# Altium footprint library Modules.PcbLib: 5 footprints
Each footprint in its own frame and in the unit in brackets; x right, y up, seen from the top. Pads: shape width x height; smd on the part's side, far side on the other; paste and mask are expansions set on the pad; w line width, h text height; cw(c..) or ccw(c..) is an arc to the next point about the centre after c.
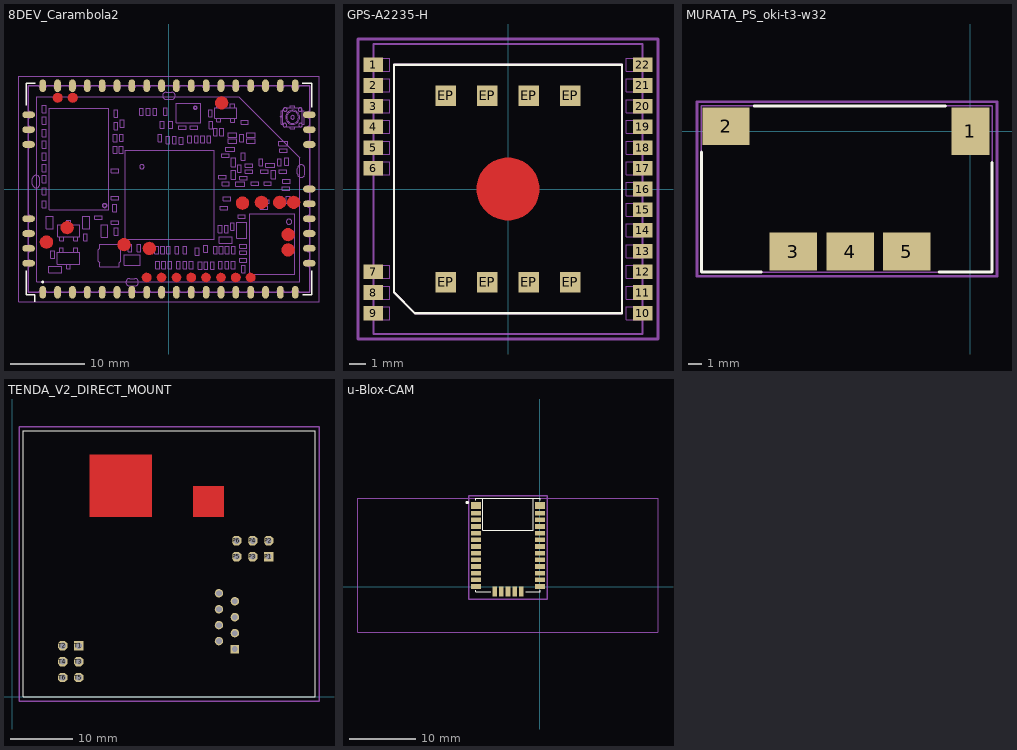
[diagram p0: the footprints below, top view; thin cyan lines are the x and y axes]

## 8DEV_Carambola2 [mm] "8DEV_0301_0002_28X38_FP"
height 1.2
pads (52):
  oval 0.898x1.698 smd mask+0.1: 1(-16.998,-13.898) 2(-14.998,-13.898) 3(-12.998,-13.898) 4(-10.999,-13.898) 5(-8.998,-13.898) 6(-6.998,-13.898) 7(-4.998,-13.898) 8(-2.998,-13.898) 9(-0.998,-13.898) 10(0.998,-13.898) 11(2.998,-13.898) 12(4.998,-13.898) 13(6.998,-13.898) 14(8.998,-13.898) 15(10.998,-13.898) 16(12.998,-13.898) 17(14.998,-13.898) 18(16.998,-13.898) 28(16.998,13.898) 29(14.998,13.898) 30(12.998,13.898) 31(10.998,13.898) 32(8.998,13.898) 33(6.998,13.898) 34(4.998,13.898) 35(2.998,13.898) 36(0.998,13.898) 37(-0.998,13.898) 38(-2.998,13.898) 39(-4.998,13.898) 40(-6.998,13.898) 41(-8.998,13.898) 42(-10.999,13.898) 43(-12.998,13.898) 44(-14.998,13.898) 45(-16.998,13.898)
  oval 1.698x0.898 smd mask+0.1: 19(18.898,-9.998) 20(18.898,-7.998) 21(18.898,-5.998) 22(18.898,-3.998) 23(18.898,-1.998) 24(18.898,0) 25(18.898,5.998) 26(18.898,7.998) 27(18.898,9.998) 46(-18.898,9.998) 47(-18.898,7.998) 48(-18.898,5.998) 49(-18.898,-3.998) 50(-18.898,-5.998) 51(-18.898,-7.998) 52(-18.898,-9.998)
Top Layer:
  pour cut-out: 16.273,-5.308 16.274,-5.309 16.276,-5.309 16.483,-5.395 16.484,-5.396 16.486,-5.397 16.663,-5.533 16.664,-5.535 16.666,-5.536 16.802,-5.713 16.803,-5.715 16.804,-5.716 16.89,-5.923 16.89,-5.925 16.891,-5.926 16.92,-6.148 16.919,-6.15 16.92,-6.152 16.891,-6.374 16.89,-6.375 16.89,-6.377 16.804,-6.584 16.803,-6.585 16.802,-6.587 16.666,-6.764 16.664,-6.765 16.663,-6.767 16.486,-6.903 16.484,-6.904 16.483,-6.905 16.276,-6.991 16.274,-6.991 16.273,-6.992 16.051,-7.021 16.049,-7.02 16.047,-7.021 15.825,-6.992 15.824,-6.991 15.822,-6.991 15.615,-6.905 15.614,-6.904 15.612,-6.903 15.435,-6.767 15.434,-6.765 15.432,-6.764 15.296,-6.587 15.295,-6.585 15.294,-6.584 15.208,-6.377 15.208,-6.375 15.207,-6.374 15.178,-6.152 15.178,-6.151 15.178,-6.15 15.18,-6.146 15.181,-6.142 15.182,-6.141 15.182,-6.14 15.182,-6.139 15.18,-6.135 15.18,-6.134 15.18,-6.133 15.207,-5.926 15.208,-5.925 15.208,-5.923 15.294,-5.716 15.295,-5.715 15.296,-5.713 15.432,-5.536 15.434,-5.535 15.435,-5.533 15.612,-5.397 15.614,-5.396 15.615,-5.395 15.822,-5.309 15.824,-5.309 15.825,-5.308 16.047,-5.279 16.049,-5.28 16.051,-5.279
  pour cut-out: 17.023,-0.957 17.024,-0.958 17.026,-0.958 17.233,-1.044 17.234,-1.045 17.236,-1.046 17.413,-1.182 17.414,-1.184 17.416,-1.185 17.552,-1.362 17.553,-1.364 17.554,-1.365 17.64,-1.572 17.64,-1.574 17.641,-1.575 17.67,-1.797 17.669,-1.799 17.67,-1.801 17.641,-2.023 17.64,-2.024 17.64,-2.026 17.554,-2.233 17.553,-2.234 17.552,-2.236 17.416,-2.413 17.414,-2.414 17.413,-2.416 17.236,-2.552 17.234,-2.553 17.233,-2.554 17.026,-2.64 17.024,-2.64 17.023,-2.641 16.801,-2.67 16.799,-2.669 16.797,-2.67 16.575,-2.641 16.574,-2.64 16.572,-2.64 16.365,-2.554 16.364,-2.553 16.362,-2.552 16.185,-2.416 16.184,-2.414 16.182,-2.413 16.046,-2.236 16.045,-2.234 16.044,-2.233 15.958,-2.026 15.958,-2.024 15.957,-2.023 15.928,-1.801 15.928,-1.8 15.928,-1.799 15.93,-1.795 15.931,-1.791 15.932,-1.79 15.932,-1.789 15.932,-1.788 15.93,-1.784 15.93,-1.783 15.93,-1.782 15.957,-1.575 15.958,-1.574 15.958,-1.572 16.044,-1.365 16.045,-1.364 16.046,-1.362 16.182,-1.185 16.184,-1.184 16.185,-1.182 16.362,-1.046 16.364,-1.045 16.365,-1.044 16.572,-0.958 16.574,-0.958 16.575,-0.957 16.797,-0.928 16.799,-0.929 16.801,-0.928
  pour cut-out: 15.123,-0.957 15.124,-0.958 15.126,-0.958 15.333,-1.044 15.334,-1.045 15.336,-1.046 15.513,-1.182 15.514,-1.184 15.516,-1.185 15.652,-1.362 15.653,-1.364 15.654,-1.365 15.74,-1.572 15.74,-1.574 15.741,-1.575 15.77,-1.797 15.769,-1.799 15.77,-1.801 15.741,-2.023 15.74,-2.024 15.74,-2.026 15.654,-2.233 15.653,-2.234 15.652,-2.236 15.516,-2.413 15.514,-2.414 15.513,-2.416 15.336,-2.552 15.334,-2.553 15.333,-2.554 15.126,-2.64 15.124,-2.64 15.123,-2.641 14.901,-2.67 14.899,-2.669 14.897,-2.67 14.675,-2.641 14.674,-2.64 14.672,-2.64 14.465,-2.554 14.464,-2.553 14.462,-2.552 14.285,-2.416 14.284,-2.414 14.282,-2.413 14.146,-2.236 14.145,-2.234 14.144,-2.233 14.058,-2.026 14.058,-2.024 14.057,-2.023 14.028,-1.801 14.028,-1.8 14.028,-1.799 14.03,-1.795 14.031,-1.791 14.032,-1.79 14.032,-1.789 14.032,-1.788 14.03,-1.784 14.03,-1.783 14.03,-1.782 14.057,-1.575 14.058,-1.574 14.058,-1.572 14.144,-1.365 14.145,-1.364 14.146,-1.362 14.282,-1.185 14.284,-1.184 14.285,-1.182 14.462,-1.046 14.464,-1.045 14.465,-1.044 14.672,-0.958 14.674,-0.958 14.675,-0.957 14.897,-0.928 14.899,-0.929 14.901,-0.928
  pour cut-out: 12.673,-0.957 12.674,-0.958 12.676,-0.958 12.883,-1.044 12.884,-1.045 12.886,-1.046 13.063,-1.182 13.064,-1.184 13.066,-1.185 13.202,-1.362 13.203,-1.364 13.204,-1.365 13.29,-1.572 13.29,-1.574 13.291,-1.575 13.32,-1.797 13.319,-1.799 13.32,-1.801 13.291,-2.023 13.29,-2.024 13.29,-2.026 13.204,-2.233 13.203,-2.234 13.202,-2.236 13.066,-2.413 13.064,-2.414 13.063,-2.416 12.886,-2.552 12.884,-2.553 12.883,-2.554 12.676,-2.64 12.674,-2.64 12.673,-2.641 12.451,-2.67 12.449,-2.669 12.447,-2.67 12.225,-2.641 12.224,-2.64 12.222,-2.64 12.015,-2.554 12.014,-2.553 12.012,-2.552 11.835,-2.416 11.834,-2.414 11.832,-2.413 11.696,-2.236 11.695,-2.234 11.694,-2.233 11.608,-2.026 11.608,-2.024 11.607,-2.023 11.578,-1.801 11.578,-1.8 11.578,-1.799 11.58,-1.795 11.581,-1.791 11.582,-1.79 11.582,-1.789 11.582,-1.788 11.58,-1.784 11.58,-1.783 11.58,-1.782 11.607,-1.575 11.608,-1.574 11.608,-1.572 11.694,-1.365 11.695,-1.364 11.696,-1.362 11.832,-1.185 11.834,-1.184 11.835,-1.182 12.012,-1.046 12.014,-1.045 12.015,-1.044 12.222,-0.958 12.224,-0.958 12.225,-0.957 12.447,-0.928 12.449,-0.929 12.451,-0.928
  pour cut-out: 10.123,-1.057 10.124,-1.058 10.126,-1.058 10.333,-1.144 10.334,-1.145 10.336,-1.146 10.513,-1.282 10.514,-1.284 10.516,-1.285 10.652,-1.462 10.653,-1.464 10.654,-1.465 10.74,-1.672 10.74,-1.674 10.741,-1.675 10.77,-1.897 10.769,-1.899 10.77,-1.901 10.741,-2.123 10.74,-2.124 10.74,-2.126 10.654,-2.333 10.653,-2.334 10.652,-2.336 10.516,-2.513 10.514,-2.514 10.513,-2.516 10.336,-2.652 10.334,-2.653 10.333,-2.654 10.126,-2.74 10.124,-2.74 10.123,-2.741 9.901,-2.77 9.899,-2.769 9.897,-2.77 9.675,-2.741 9.674,-2.74 9.672,-2.74 9.465,-2.654 9.464,-2.653 9.462,-2.652 9.285,-2.516 9.284,-2.514 9.282,-2.513 9.146,-2.336 9.145,-2.334 9.144,-2.333 9.058,-2.126 9.058,-2.124 9.057,-2.123 9.028,-1.901 9.028,-1.9 9.028,-1.899 9.03,-1.895 9.031,-1.891 9.032,-1.89 9.032,-1.889 9.032,-1.888 9.03,-1.884 9.03,-1.883 9.03,-1.882 9.057,-1.675 9.058,-1.674 9.058,-1.672 9.144,-1.465 9.145,-1.464 9.146,-1.462 9.282,-1.285 9.284,-1.284 9.285,-1.282 9.462,-1.146 9.464,-1.145 9.465,-1.144 9.672,-1.058 9.674,-1.058 9.675,-1.057 9.897,-1.028 9.899,-1.029 9.901,-1.028
  pour cut-out: 11.239,-11.313 11.241,-11.314 11.244,-11.315 11.445,-11.449 11.447,-11.451 11.449,-11.453 11.583,-11.654 11.584,-11.657 11.585,-11.659 11.632,-11.896 11.632,-11.899 11.632,-11.902 11.585,-12.139 11.584,-12.141 11.583,-12.144 11.449,-12.345 11.447,-12.347 11.445,-12.349 11.244,-12.483 11.241,-12.484 11.239,-12.485 11.002,-12.532 10.999,-12.532 10.996,-12.532 10.759,-12.485 10.757,-12.484 10.754,-12.483 10.553,-12.349 10.551,-12.347 10.549,-12.345 10.415,-12.144 10.414,-12.141 10.413,-12.139 10.366,-11.902 10.366,-11.899 10.366,-11.896 10.413,-11.659 10.414,-11.657 10.415,-11.654 10.549,-11.453 10.551,-11.451 10.553,-11.449 10.754,-11.315 10.757,-11.314 10.759,-11.313 10.896,-11.285 10.897,-11.285 10.897,-11.286 10.905,-11.284 10.907,-11.283 10.996,-11.266 10.999,-11.266 11.002,-11.266
  pour cut-out: 9.239,-11.313 9.241,-11.314 9.244,-11.315 9.445,-11.449 9.447,-11.451 9.449,-11.453 9.583,-11.654 9.584,-11.657 9.585,-11.659 9.632,-11.896 9.632,-11.899 9.632,-11.902 9.585,-12.139 9.584,-12.141 9.583,-12.144 9.449,-12.345 9.447,-12.347 9.445,-12.349 9.244,-12.483 9.241,-12.484 9.239,-12.485 9.002,-12.532 8.999,-12.532 8.996,-12.532 8.759,-12.485 8.757,-12.484 8.754,-12.483 8.553,-12.349 8.551,-12.347 8.549,-12.345 8.415,-12.144 8.414,-12.141 8.413,-12.139 8.366,-11.902 8.366,-11.899 8.366,-11.896 8.413,-11.659 8.414,-11.657 8.415,-11.654 8.549,-11.453 8.551,-11.451 8.553,-11.449 8.754,-11.315 8.757,-11.314 8.759,-11.313 8.896,-11.285 8.897,-11.285 8.897,-11.286 8.905,-11.284 8.907,-11.283 8.996,-11.266 8.999,-11.266 9.002,-11.266
  pour cut-out: 7.239,-11.313 7.241,-11.314 7.244,-11.315 7.445,-11.449 7.447,-11.451 7.449,-11.453 7.583,-11.654 7.584,-11.657 7.585,-11.659 7.632,-11.896 7.632,-11.899 7.632,-11.902 7.585,-12.139 7.584,-12.141 7.583,-12.144 7.449,-12.345 7.447,-12.347 7.445,-12.349 7.244,-12.483 7.241,-12.484 7.239,-12.485 7.002,-12.532 6.999,-12.532 6.996,-12.532 6.759,-12.485 6.757,-12.484 6.754,-12.483 6.553,-12.349 6.551,-12.347 6.549,-12.345 6.415,-12.144 6.414,-12.141 6.413,-12.139 6.366,-11.902 6.366,-11.899 6.366,-11.896 6.413,-11.659 6.414,-11.657 6.415,-11.654 6.549,-11.453 6.551,-11.451 6.553,-11.449 6.754,-11.315 6.757,-11.314 6.759,-11.313 6.896,-11.285 6.897,-11.285 6.897,-11.286 6.905,-11.284 6.907,-11.283 6.996,-11.266 6.999,-11.266 7.002,-11.266
  pour cut-out: 5.239,-11.313 5.241,-11.314 5.244,-11.315 5.445,-11.449 5.447,-11.451 5.449,-11.453 5.583,-11.654 5.584,-11.657 5.585,-11.659 5.632,-11.896 5.632,-11.899 5.632,-11.902 5.585,-12.139 5.584,-12.141 5.583,-12.144 5.449,-12.345 5.447,-12.347 5.445,-12.349 5.244,-12.483 5.241,-12.484 5.239,-12.485 5.002,-12.532 4.999,-12.532 4.996,-12.532 4.759,-12.485 4.757,-12.484 4.754,-12.483 4.553,-12.349 4.551,-12.347 4.549,-12.345 4.415,-12.144 4.414,-12.141 4.413,-12.139 4.366,-11.902 4.366,-11.899 4.366,-11.896 4.413,-11.659 4.414,-11.657 4.415,-11.654 4.549,-11.453 4.551,-11.451 4.553,-11.449 4.754,-11.315 4.757,-11.314 4.759,-11.313 4.896,-11.285 4.897,-11.285 4.897,-11.286 4.905,-11.284 4.907,-11.283 4.996,-11.266 4.999,-11.266 5.002,-11.266
  pour cut-out: -16.275,-6.307 -16.274,-6.308 -16.272,-6.308 -16.065,-6.394 -16.064,-6.395 -16.062,-6.396 -15.885,-6.532 -15.884,-6.534 -15.882,-6.535 -15.746,-6.712 -15.745,-6.714 -15.744,-6.715 -15.658,-6.922 -15.658,-6.924 -15.657,-6.925 -15.628,-7.147 -15.629,-7.149 -15.628,-7.151 -15.657,-7.373 -15.658,-7.374 -15.658,-7.376 -15.744,-7.583 -15.745,-7.584 -15.746,-7.586 -15.882,-7.763 -15.884,-7.764 -15.885,-7.766 -16.062,-7.902 -16.064,-7.903 -16.065,-7.904 -16.272,-7.99 -16.274,-7.99 -16.275,-7.991 -16.497,-8.02 -16.499,-8.019 -16.501,-8.02 -16.723,-7.991 -16.724,-7.99 -16.726,-7.99 -16.933,-7.904 -16.934,-7.903 -16.936,-7.902 -17.113,-7.766 -17.114,-7.764 -17.116,-7.763 -17.252,-7.586 -17.253,-7.584 -17.254,-7.583 -17.34,-7.376 -17.34,-7.374 -17.341,-7.373 -17.37,-7.151 -17.37,-7.15 -17.37,-7.149 -17.368,-7.145 -17.367,-7.141 -17.366,-7.14 -17.366,-7.139 -17.366,-7.138 -17.368,-7.134 -17.368,-7.133 -17.368,-7.132 -17.341,-6.925 -17.34,-6.924 -17.34,-6.922 -17.254,-6.715 -17.253,-6.714 -17.252,-6.712 -17.116,-6.535 -17.114,-6.534 -17.113,-6.532 -16.936,-6.396 -16.934,-6.395 -16.933,-6.394 -16.726,-6.308 -16.724,-6.308 -16.723,-6.307 -16.501,-6.278 -16.499,-6.279 -16.497,-6.278
  pour cut-out: -14.75,12.909 -14.748,12.908 -14.745,12.907 -14.536,12.768 -14.534,12.766 -14.532,12.764 -14.393,12.555 -14.392,12.552 -14.391,12.55 -14.342,12.304 -14.342,12.301 -14.342,12.298 -14.391,12.052 -14.392,12.05 -14.393,12.047 -14.532,11.838 -14.534,11.836 -14.536,11.834 -14.745,11.695 -14.748,11.694 -14.75,11.693 -14.996,11.644 -14.999,11.644 -15.002,11.644 -15.248,11.693 -15.25,11.694 -15.253,11.695 -15.462,11.834 -15.464,11.836 -15.466,11.838 -15.605,12.047 -15.606,12.05 -15.607,12.052 -15.656,12.298 -15.656,12.301 -15.656,12.304 -15.607,12.55 -15.606,12.552 -15.605,12.555 -15.466,12.764 -15.464,12.766 -15.462,12.768 -15.253,12.907 -15.25,12.908 -15.248,12.909 -15.204,12.918 -15.2,12.917 -15.198,12.917 -15.195,12.92 -15.194,12.92 -15.193,12.92 -15.002,12.958 -14.999,12.958 -14.996,12.958
  pour cut-out: -12.7,12.909 -12.698,12.908 -12.695,12.907 -12.486,12.768 -12.484,12.766 -12.482,12.764 -12.343,12.555 -12.342,12.552 -12.341,12.55 -12.292,12.304 -12.292,12.301 -12.292,12.298 -12.341,12.052 -12.342,12.05 -12.343,12.047 -12.482,11.838 -12.484,11.836 -12.486,11.834 -12.695,11.695 -12.698,11.694 -12.7,11.693 -12.946,11.644 -12.949,11.644 -12.952,11.644 -13.198,11.693 -13.2,11.694 -13.203,11.695 -13.412,11.834 -13.414,11.836 -13.416,11.838 -13.555,12.047 -13.556,12.05 -13.557,12.052 -13.606,12.298 -13.606,12.301 -13.606,12.304 -13.557,12.55 -13.556,12.552 -13.555,12.555 -13.416,12.764 -13.414,12.766 -13.412,12.768 -13.203,12.907 -13.2,12.908 -13.198,12.909 -13.154,12.918 -13.15,12.917 -13.148,12.917 -13.145,12.92 -13.144,12.92 -13.143,12.92 -12.952,12.958 -12.949,12.958 -12.946,12.958
  pour cut-out: 3.239,-11.313 3.241,-11.314 3.244,-11.315 3.445,-11.449 3.447,-11.451 3.449,-11.453 3.583,-11.654 3.584,-11.657 3.585,-11.659 3.632,-11.896 3.632,-11.899 3.632,-11.902 3.585,-12.139 3.584,-12.141 3.583,-12.144 3.449,-12.345 3.447,-12.347 3.445,-12.349 3.244,-12.483 3.241,-12.484 3.239,-12.485 3.002,-12.532 2.999,-12.532 2.996,-12.532 2.759,-12.485 2.757,-12.484 2.754,-12.483 2.553,-12.349 2.551,-12.347 2.549,-12.345 2.415,-12.144 2.414,-12.141 2.413,-12.139 2.366,-11.902 2.366,-11.899 2.366,-11.896 2.413,-11.659 2.414,-11.657 2.415,-11.654 2.549,-11.453 2.551,-11.451 2.553,-11.449 2.754,-11.315 2.757,-11.314 2.759,-11.313 2.896,-11.285 2.897,-11.285 2.897,-11.286 2.905,-11.284 2.907,-11.283 2.996,-11.266 2.999,-11.266 3.002,-11.266
  pour cut-out: 1.239,-11.313 1.241,-11.314 1.244,-11.315 1.445,-11.449 1.447,-11.451 1.449,-11.453 1.583,-11.654 1.584,-11.657 1.585,-11.659 1.632,-11.896 1.632,-11.899 1.632,-11.902 1.585,-12.139 1.584,-12.141 1.583,-12.144 1.449,-12.345 1.447,-12.347 1.445,-12.349 1.244,-12.483 1.241,-12.484 1.239,-12.485 1.002,-12.532 0.999,-12.532 0.996,-12.532 0.759,-12.485 0.757,-12.484 0.754,-12.483 0.553,-12.349 0.551,-12.347 0.549,-12.345 0.415,-12.144 0.414,-12.141 0.413,-12.139 0.366,-11.902 0.366,-11.899 0.366,-11.896 0.413,-11.659 0.414,-11.657 0.415,-11.654 0.549,-11.453 0.551,-11.451 0.553,-11.449 0.754,-11.315 0.757,-11.314 0.759,-11.313 0.896,-11.285 0.897,-11.285 0.897,-11.286 0.905,-11.284 0.907,-11.283 0.996,-11.266 0.999,-11.266 1.002,-11.266
  pour cut-out: -0.759,-11.313 -0.757,-11.314 -0.754,-11.315 -0.553,-11.449 -0.551,-11.451 -0.549,-11.453 -0.415,-11.654 -0.414,-11.657 -0.413,-11.659 -0.366,-11.896 -0.366,-11.899 -0.366,-11.902 -0.413,-12.139 -0.414,-12.141 -0.415,-12.144 -0.549,-12.345 -0.551,-12.347 -0.553,-12.349 -0.754,-12.483 -0.757,-12.484 -0.759,-12.485 -0.996,-12.532 -0.999,-12.532 -1.002,-12.532 -1.239,-12.485 -1.241,-12.484 -1.244,-12.483 -1.445,-12.349 -1.447,-12.347 -1.449,-12.345 -1.583,-12.144 -1.584,-12.141 -1.585,-12.139 -1.632,-11.902 -1.632,-11.899 -1.632,-11.896 -1.585,-11.659 -1.584,-11.657 -1.583,-11.654 -1.449,-11.453 -1.447,-11.451 -1.445,-11.449 -1.244,-11.315 -1.241,-11.314 -1.239,-11.313 -1.102,-11.285 -1.101,-11.285 -1.101,-11.286 -1.093,-11.284 -1.091,-11.283 -1.002,-11.266 -0.999,-11.266 -0.996,-11.266
  pour cut-out: 7.323,12.441 7.324,12.44 7.326,12.44 7.533,12.354 7.534,12.353 7.536,12.352 7.713,12.216 7.714,12.214 7.716,12.213 7.852,12.036 7.853,12.034 7.854,12.033 7.94,11.826 7.94,11.824 7.941,11.823 7.97,11.601 7.969,11.599 7.97,11.597 7.941,11.375 7.94,11.374 7.94,11.372 7.854,11.165 7.853,11.164 7.852,11.162 7.716,10.985 7.714,10.984 7.713,10.982 7.536,10.846 7.534,10.845 7.533,10.844 7.326,10.758 7.324,10.758 7.323,10.757 7.101,10.728 7.099,10.729 7.097,10.728 6.875,10.757 6.874,10.758 6.872,10.758 6.665,10.844 6.664,10.845 6.662,10.846 6.485,10.982 6.484,10.984 6.482,10.985 6.346,11.162 6.345,11.164 6.344,11.165 6.258,11.372 6.258,11.374 6.257,11.375 6.228,11.597 6.228,11.598 6.228,11.599 6.23,11.603 6.231,11.607 6.232,11.608 6.232,11.609 6.232,11.61 6.23,11.614 6.23,11.615 6.23,11.616 6.257,11.823 6.258,11.824 6.258,11.826 6.344,12.033 6.345,12.034 6.346,12.036 6.482,12.213 6.484,12.214 6.485,12.216 6.662,12.352 6.664,12.353 6.665,12.354 6.872,12.44 6.874,12.44 6.875,12.441 7.097,12.47 7.099,12.469 7.101,12.47
  pour cut-out: -2.759,-11.313 -2.757,-11.314 -2.754,-11.315 -2.553,-11.449 -2.551,-11.451 -2.549,-11.453 -2.415,-11.654 -2.414,-11.657 -2.413,-11.659 -2.366,-11.896 -2.366,-11.899 -2.366,-11.902 -2.413,-12.139 -2.414,-12.141 -2.415,-12.144 -2.549,-12.345 -2.551,-12.347 -2.553,-12.349 -2.754,-12.483 -2.757,-12.484 -2.759,-12.485 -2.996,-12.532 -2.999,-12.532 -3.002,-12.532 -3.239,-12.485 -3.241,-12.484 -3.244,-12.483 -3.445,-12.349 -3.447,-12.347 -3.449,-12.345 -3.583,-12.144 -3.584,-12.141 -3.585,-12.139 -3.632,-11.902 -3.632,-11.899 -3.632,-11.896 -3.585,-11.659 -3.584,-11.657 -3.583,-11.654 -3.449,-11.453 -3.447,-11.451 -3.445,-11.449 -3.244,-11.315 -3.241,-11.314 -3.239,-11.313 -3.102,-11.285 -3.101,-11.285 -3.101,-11.286 -3.093,-11.284 -3.091,-11.283 -3.002,-11.266 -2.999,-11.266 -2.996,-11.266
  pour cut-out: -2.425,-7.157 -2.424,-7.158 -2.422,-7.158 -2.215,-7.244 -2.214,-7.245 -2.212,-7.246 -2.035,-7.382 -2.034,-7.384 -2.032,-7.385 -1.896,-7.562 -1.895,-7.564 -1.894,-7.565 -1.808,-7.772 -1.808,-7.774 -1.807,-7.775 -1.778,-7.997 -1.779,-7.999 -1.778,-8.001 -1.807,-8.223 -1.808,-8.224 -1.808,-8.226 -1.894,-8.433 -1.895,-8.434 -1.896,-8.436 -2.032,-8.613 -2.034,-8.614 -2.035,-8.616 -2.212,-8.752 -2.214,-8.753 -2.215,-8.754 -2.422,-8.84 -2.424,-8.84 -2.425,-8.841 -2.647,-8.87 -2.649,-8.869 -2.651,-8.87 -2.873,-8.841 -2.874,-8.84 -2.876,-8.84 -3.083,-8.754 -3.084,-8.753 -3.086,-8.752 -3.263,-8.616 -3.264,-8.614 -3.266,-8.613 -3.402,-8.436 -3.403,-8.434 -3.404,-8.433 -3.49,-8.226 -3.49,-8.224 -3.491,-8.223 -3.52,-8.001 -3.52,-8 -3.52,-7.999 -3.518,-7.995 -3.517,-7.991 -3.516,-7.99 -3.516,-7.989 -3.516,-7.988 -3.518,-7.984 -3.518,-7.983 -3.518,-7.982 -3.491,-7.775 -3.49,-7.774 -3.49,-7.772 -3.404,-7.565 -3.403,-7.564 -3.402,-7.562 -3.266,-7.385 -3.264,-7.384 -3.263,-7.382 -3.086,-7.246 -3.084,-7.245 -3.083,-7.244 -2.876,-7.158 -2.874,-7.158 -2.873,-7.157 -2.651,-7.128 -2.649,-7.129 -2.647,-7.128
  pour cut-out: -5.825,-6.657 -5.824,-6.658 -5.822,-6.658 -5.615,-6.744 -5.614,-6.745 -5.612,-6.746 -5.435,-6.882 -5.434,-6.884 -5.432,-6.885 -5.296,-7.062 -5.295,-7.064 -5.294,-7.065 -5.208,-7.272 -5.208,-7.274 -5.207,-7.275 -5.178,-7.497 -5.179,-7.499 -5.178,-7.501 -5.207,-7.723 -5.208,-7.724 -5.208,-7.726 -5.294,-7.933 -5.295,-7.934 -5.296,-7.936 -5.432,-8.113 -5.434,-8.114 -5.435,-8.116 -5.612,-8.252 -5.614,-8.253 -5.615,-8.254 -5.822,-8.34 -5.824,-8.34 -5.825,-8.341 -6.047,-8.37 -6.049,-8.369 -6.051,-8.37 -6.273,-8.341 -6.274,-8.34 -6.276,-8.34 -6.483,-8.254 -6.484,-8.253 -6.486,-8.252 -6.663,-8.116 -6.664,-8.114 -6.666,-8.113 -6.802,-7.936 -6.803,-7.934 -6.804,-7.933 -6.89,-7.726 -6.89,-7.724 -6.891,-7.723 -6.92,-7.501 -6.92,-7.5 -6.92,-7.499 -6.918,-7.495 -6.917,-7.491 -6.916,-7.49 -6.916,-7.489 -6.916,-7.488 -6.918,-7.484 -6.918,-7.483 -6.918,-7.482 -6.891,-7.275 -6.89,-7.274 -6.89,-7.272 -6.804,-7.065 -6.803,-7.064 -6.802,-7.062 -6.666,-6.885 -6.664,-6.884 -6.663,-6.882 -6.486,-6.746 -6.484,-6.745 -6.483,-6.744 -6.276,-6.658 -6.274,-6.658 -6.273,-6.657 -6.051,-6.628 -6.049,-6.629 -6.047,-6.628
  pour cut-out: -13.475,-4.357 -13.474,-4.358 -13.472,-4.358 -13.265,-4.444 -13.264,-4.445 -13.262,-4.446 -13.085,-4.582 -13.084,-4.584 -13.082,-4.585 -12.946,-4.762 -12.945,-4.764 -12.944,-4.765 -12.858,-4.972 -12.858,-4.974 -12.857,-4.975 -12.828,-5.197 -12.829,-5.199 -12.828,-5.201 -12.857,-5.423 -12.858,-5.424 -12.858,-5.426 -12.944,-5.633 -12.945,-5.634 -12.946,-5.636 -13.082,-5.813 -13.084,-5.814 -13.085,-5.816 -13.262,-5.952 -13.264,-5.953 -13.265,-5.954 -13.472,-6.04 -13.474,-6.04 -13.475,-6.041 -13.697,-6.07 -13.699,-6.069 -13.701,-6.07 -13.923,-6.041 -13.924,-6.04 -13.926,-6.04 -14.133,-5.954 -14.134,-5.953 -14.136,-5.952 -14.313,-5.816 -14.314,-5.814 -14.316,-5.813 -14.452,-5.636 -14.453,-5.634 -14.454,-5.633 -14.54,-5.426 -14.54,-5.424 -14.541,-5.423 -14.57,-5.201 -14.57,-5.2 -14.57,-5.199 -14.568,-5.195 -14.567,-5.191 -14.566,-5.19 -14.566,-5.189 -14.566,-5.188 -14.568,-5.184 -14.568,-5.183 -14.568,-5.182 -14.541,-4.975 -14.54,-4.974 -14.54,-4.972 -14.454,-4.765 -14.453,-4.764 -14.452,-4.762 -14.316,-4.585 -14.314,-4.584 -14.313,-4.582 -14.136,-4.446 -14.134,-4.445 -14.133,-4.444 -13.926,-4.358 -13.924,-4.358 -13.923,-4.357 -13.701,-4.328 -13.699,-4.329 -13.697,-4.328
  pour cut-out: 16.273,-7.357 16.274,-7.358 16.276,-7.358 16.483,-7.444 16.484,-7.445 16.486,-7.446 16.663,-7.582 16.664,-7.584 16.666,-7.585 16.802,-7.762 16.803,-7.764 16.804,-7.765 16.89,-7.972 16.89,-7.974 16.891,-7.975 16.92,-8.197 16.919,-8.199 16.92,-8.201 16.891,-8.423 16.89,-8.424 16.89,-8.426 16.804,-8.633 16.803,-8.634 16.802,-8.636 16.666,-8.813 16.664,-8.814 16.663,-8.816 16.486,-8.952 16.484,-8.953 16.483,-8.954 16.276,-9.04 16.274,-9.04 16.273,-9.041 16.051,-9.07 16.049,-9.069 16.047,-9.07 15.825,-9.041 15.824,-9.04 15.822,-9.04 15.615,-8.954 15.614,-8.953 15.612,-8.952 15.435,-8.816 15.434,-8.814 15.432,-8.813 15.296,-8.636 15.295,-8.634 15.294,-8.633 15.208,-8.426 15.208,-8.424 15.207,-8.423 15.178,-8.201 15.178,-8.2 15.178,-8.199 15.18,-8.195 15.181,-8.191 15.182,-8.19 15.182,-8.189 15.182,-8.188 15.18,-8.184 15.18,-8.183 15.18,-8.182 15.207,-7.975 15.208,-7.974 15.208,-7.972 15.294,-7.765 15.295,-7.764 15.296,-7.762 15.432,-7.585 15.434,-7.584 15.435,-7.582 15.612,-7.446 15.614,-7.445 15.615,-7.444 15.822,-7.358 15.824,-7.358 15.825,-7.357 16.047,-7.328 16.049,-7.329 16.051,-7.328
Top Overlay:
  circle w0.2: c-17,-12.5 r0.1
  lines w0.199: -19.249,-10.999 -19.249,-14.25 -18.049,-14.25 -18.049,-15.199 ; -19.249,11.249 -19.249,14.249 -17.999,14.249 ; 17.949,14.249 19.249,14.249 19.249,10.999 ; 17.999,-14.25 19.249,-14.25 19.249,-10.999
Top Paste:
  drawing of 52 lines, arcs and shapes, not listed
Mechanical 13:
  drawing of 827 lines, arcs and shapes, not listed
  text "52" at -18.684,-11.356 h0.52
  text "28" at 17.118,12.306 h0.52
  text "18" at 17.478,-13.496 h0.52
  text "1" at -18.119,-13.591 h0.52
  text "19" at 17.617,-11.461 h0.52
  text "45" at -18.484,12.841 h0.52
  text "27" at 17.938,10.491 h0.52
  text "46" at -18.734,10.591 h0.52
Mechanical 15:
  lines w0.1: -20.193,-15.2 -20.193,15.2 20.2,15.2 20.2,-15.2 -20.193,-15.2
  text ".Designator" at -4.445,0.127 h2
3D body "SW3dPS-UFL-R-SMD.STEP": height 2.25, standoff 1, extent 14.95,8.1 18.35,11.2
3D body "User Library-Carambola2.step": height 4.3, standoff 0, extent -18.999,-13.949 19.001,13.951

## GPS-A2235-H [mm] "GPS-A2235-H"
pads (30):
  rect 1.2x0.9 smd: 1(-8.255,7.62) 2(-8.255,6.35) 3(-8.255,5.08) 4(-8.255,3.81) 5(-8.255,2.54) 6(-8.255,1.27) 7(-8.255,-5.08) 8(-8.255,-6.35) 9(-8.255,-7.62) 10(8.255,-7.62) 11(8.255,-6.35) 12(8.255,-5.08) 13(8.255,-3.81) 14(8.255,-2.54) 15(8.255,-1.27) 16(8.255,0) 17(8.255,1.27) 18(8.255,2.54) 19(8.255,3.81) 20(8.255,5.08) 21(8.255,6.35) 22(8.255,7.62)
  rect 1.27x1.27 smd: EP(-3.81,-5.715) EP(-3.81,5.715) EP(-1.27,-5.715) EP(-1.27,5.715) EP(1.27,-5.715) EP(1.27,5.715) EP(3.81,-5.715) EP(3.81,5.715)
Top Layer:
  region: 1.905,0 1.905,-0.188 1.832,-0.556 1.688,-0.902 1.48,-1.214 1.214,-1.48 0.902,-1.688 0.556,-1.832 0.188,-1.905 0,-1.905 -0.188,-1.905 -0.556,-1.832 -0.902,-1.688 -1.214,-1.48 -1.48,-1.214 -1.688,-0.902 -1.832,-0.556 -1.905,-0.188 -1.905,0.188 -1.832,0.556 -1.688,0.902 -1.48,1.214 -1.214,1.48 -0.902,1.688 -0.556,1.832 -0.188,1.905 0.188,1.905 0.556,1.832 0.902,1.688 1.214,1.48 1.48,1.214 1.688,0.902 1.832,0.556 1.905,0.188
Top Overlay:
  lines w0.127: -6.985,-6.35 -6.985,7.62 6.985,7.62 6.985,-7.62 -5.715,-7.62 -6.985,-6.35
Mechanical 13:
  lines w0.064: -8.255,-8.02 -7.255,-8.02 -7.255,-7.22 -8.255,-7.22 ; -8.255,-7.92 ccw(c-8.255,-7.62) -7.955,-7.62 ccw(c-8.255,-7.62) -8.255,-7.32 ; -8.255,-6.75 -7.255,-6.75 -7.255,-5.95 -8.255,-5.95 ; -8.255,-6.65 ccw(c-8.255,-6.35) -7.955,-6.35 ccw(c-8.255,-6.35) -8.255,-6.05 ; -8.255,-5.48 -7.255,-5.48 -7.255,-4.68 -8.255,-4.68 ; -8.255,-5.38 ccw(c-8.255,-5.08) -7.955,-5.08 ccw(c-8.255,-5.08) -8.255,-4.78 ; -8.255,0.87 -7.255,0.87 -7.255,1.67 -8.255,1.67 ; -8.255,0.97 ccw(c-8.255,1.27) -7.955,1.27 ccw(c-8.255,1.27) -8.255,1.57 ; -8.255,2.14 -7.255,2.14 -7.255,2.94 -8.255,2.94 ; -8.255,2.24 ccw(c-8.255,2.54) -7.955,2.54 ccw(c-8.255,2.54) -8.255,2.84 ; -8.255,3.41 -7.255,3.41 -7.255,4.21 -8.255,4.21 ; -8.255,3.51 ccw(c-8.255,3.81) -7.955,3.81 ccw(c-8.255,3.81) -8.255,4.11 ; -8.255,4.68 -7.255,4.68 -7.255,5.48 -8.255,5.48 ; -8.255,4.78 ccw(c-8.255,5.08) -7.955,5.08 ccw(c-8.255,5.08) -8.255,5.38 ; -8.255,5.95 -7.255,5.95 -7.255,6.75 -8.255,6.75 ; -8.255,6.05 ccw(c-8.255,6.35) -7.955,6.35 ccw(c-8.255,6.35) -8.255,6.65 ; -8.255,7.22 -7.255,7.22 -7.255,8.02 -8.255,8.02 ; -8.255,7.32 ccw(c-8.255,7.62) -7.955,7.62 ccw(c-8.255,7.62) -8.255,7.92 ; 8.255,-8.02 7.255,-8.02 7.255,-7.22 8.255,-7.22 ; 8.255,-7.92 cw(c8.255,-7.62) 7.955,-7.62 cw(c8.255,-7.62) 8.255,-7.32 ; 8.255,-6.75 7.255,-6.75 7.255,-5.95 8.255,-5.95 ; 8.255,-6.65 cw(c8.255,-6.35) 7.955,-6.35 cw(c8.255,-6.35) 8.255,-6.05 ; 8.255,-5.48 7.255,-5.48 7.255,-4.68 8.255,-4.68 ; 8.255,-5.38 cw(c8.255,-5.08) 7.955,-5.08 cw(c8.255,-5.08) 8.255,-4.78 ; 8.255,-4.21 7.255,-4.21 7.255,-3.41 8.255,-3.41 ; 8.255,-4.11 cw(c8.255,-3.81) 7.955,-3.81 cw(c8.255,-3.81) 8.255,-3.51 ; 8.255,-2.94 7.255,-2.94 7.255,-2.14 8.255,-2.14 ; 8.255,-2.84 cw(c8.255,-2.54) 7.955,-2.54 cw(c8.255,-2.54) 8.255,-2.24 ; 8.255,-1.67 7.255,-1.67 7.255,-0.87 8.255,-0.87 ; 8.255,-1.57 cw(c8.255,-1.27) 7.955,-1.27 cw(c8.255,-1.27) 8.255,-0.97 ; 8.255,-0.4 7.255,-0.4 7.255,0.4 8.255,0.4 ; 8.255,-0.3 cw(c8.255,0) 7.955,0 cw(c8.255,0) 8.255,0.3 ; 8.255,0.87 7.255,0.87 7.255,1.67 8.255,1.67 ; 8.255,0.97 cw(c8.255,1.27) 7.955,1.27 cw(c8.255,1.27) 8.255,1.57 ; 8.255,2.14 7.255,2.14 7.255,2.94 8.255,2.94 ; 8.255,2.24 cw(c8.255,2.54) 7.955,2.54 cw(c8.255,2.54) 8.255,2.84 ; 8.255,3.41 7.255,3.41 7.255,4.21 8.255,4.21 ; 8.255,3.51 cw(c8.255,3.81) 7.955,3.81 cw(c8.255,3.81) 8.255,4.11 ; 8.255,4.68 7.255,4.68 7.255,5.48 8.255,5.48 ; 8.255,4.78 cw(c8.255,5.08) 7.955,5.08 cw(c8.255,5.08) 8.255,5.38 ; 8.255,5.95 7.255,5.95 7.255,6.75 8.255,6.75 ; 8.255,6.05 cw(c8.255,6.35) 7.955,6.35 cw(c8.255,6.35) 8.255,6.65 ; 8.255,7.22 7.255,7.22 7.255,8.02 8.255,8.02 ; 8.255,7.32 cw(c8.255,7.62) 7.955,7.62 cw(c8.255,7.62) 8.255,7.92
  lines w0.127: -8.255,-8.89 8.255,-8.89 8.255,8.89 -8.255,8.89 -8.255,8.02 -8.255,7.92 -8.255,7.32 -8.255,7.22 -8.255,-8.89 ; -6.985,-6.35 -5.715,-7.62 6.985,-7.62 6.985,7.62 -6.985,7.62 -6.985,-6.35
Mechanical 15:
  lines w0.2: -9.2,-9.2 9.2,-9.2 9.2,9.2 -9.2,9.2 -9.2,-9.2
  text ".Designator" at -4.3,-0.4 h2
3D body "User Library-AX135-H.step": height 7.1, standoff -0.1, extent -8.3,-8.94 8.21,8.84

## MURATA_PS_oki-t3-w32 [mm] "GPS-A2235-H"
pads (5):
  rect 2.7x3.4 smd: 1(0,0)
  rect 3.4x2.7 smd: 2(-17.52,0.35) 3(-12.69,-8.63) 4(-8.63,-8.63) 5(-4.57,-8.63)
Top Overlay:
  lines w0.2: -19.28,-1.5 -19.28,-10.1 -15,-10.1 ; -15.5,1.8 -1.8,1.8 ; -2.25,-10.1 1.5,-10.1 ; 1.55,-10.1 1.55,-2.25
Mechanical 13:
  lines w0.1: -19.28,1.8 1.55,1.8 ; -19.28,1.8 -19.28,-10.1 1.55,-10.1 1.55,1.8 ; -19.28,1.8 1.55,1.8
Mechanical 15:
  lines w0.2: -19.6,-10.4 1.9,-10.4 1.9,2.1 -19.6,2.1 -19.6,-10.4
  text ".Designator" at -13.6,-4.1 h2
3D body "mps_dcdc_oki_t3_a.STEP": height 8.59, standoff 0, extent -19.278,-10.1 1.55,1.838

## TENDA_V2_DIRECT_MOUNT [mm] "TENDA_V2_MOUNT"
pads (20):
  rect 1.35x1.35 hole 0.9: E1(35.5,7.6)
  round 1.35 hole 0.9: E2(32.96,8.87) E3(35.5,10.14) E4(32.96,11.41) E5(35.5,12.68) E6(32.96,13.95) E7(35.5,15.22) E8(32.96,16.49)
  rect 1.5x1.5 hole 1: P1(40.87,22.33) T1(10.6,8.14)
  oct 1.5x1.5 hole 1: P2(40.87,24.87) P3(38.33,22.33) P4(38.33,24.87) P5(35.79,22.33) P6(35.79,24.87) T2(8.06,8.14) T3(10.6,5.6) T4(8.06,5.6) T5(10.6,3.06) T6(8.06,3.06)
Top Layer:
  region: 22.33,38.6 12.33,38.6 12.33,28.6 22.33,28.6
  region: 33.8,33.6 28.8,33.6 28.8,28.6 33.8,28.6
Top Overlay:
  lines w0.127: 1.775,-0.025 1.775,42.35 48.275,42.35 48.275,-0.025 1.775,-0.025
Top Solder:
  region: 33.8,33.6 28.8,33.6 28.8,28.6 33.8,28.6
  region: 22.33,38.6 12.33,38.6 12.33,28.6 22.33,28.6
Mechanical 15:
  lines w0.2: 1.1,-0.7 1.1,43 48.9,43 48.9,-0.7 1.1,-0.7
  text ".Designator" at 15.4,22.6 h5
3D body "Tenda Homeplug board rev1.stp": height 12.25, standoff 0.5, extent 1.75,0 51.75,42

## u-Blox-CAM [mm] "u-blox CAM GNSS antenna module"
pads (31):
  rect 1.5x0.7 smd: 1(0,0) 2(0,1) 3(0,2) 4(0,3) 5(0,4) 6(0,5) 7(0,6) 8(0,7) 9(0,8) 10(0,9) 11(0,10) 12(0,11) 15(-9.6,11) 16(-9.6,10) 17(-9.6,9) 18(-9.6,8) 19(-9.6,7) 20(-9.6,6) 21(-9.6,5) 22(-9.6,4) 23(-9.6,3) 24(-9.6,2) 25(-9.6,1) 26(-9.6,0)
  rect 1.5x1 smd: 13(0,12.15) 14(-9.6,12.15)
  rect 0.7x1.5 smd: 27(-6.8,-0.75) 28(-5.8,-0.75) 29(-4.8,-0.75) 30(-3.8,-0.75) 31(-2.8,-0.75)
Top Overlay:
  circle w0.4: c-10.891,12.6 r0.05
  lines w0.16: -9.6,-0.6 -9.6,-0.8 -7.4,-0.8 ; -9.6,12.9 -9.6,13.2 0,13.2 0,12.9 ; -8.6,13.2 -8.6,8.45 -1,8.45 -1,13.2 ; -2.17,-0.8 -0.35,-0.8 0,-0.8 0,-0.6
Mechanical 5:
  lines w0.16: -27.3,-6.85 -27.3,13.2 17.7,13.2 17.7,-6.85 -27.3,-6.85
  text "<----   >10mm each side   ----|" at -27.35,13.7 h0.6
  text "|--------   >20mm height   ------->" at -28.45,13.2 h0.6
  text "|----   >10mm each side   ---->" at 0.05,13.7 h0.6
  text "recommended minimum GND plane size (can contain some parts)" at -21.1,-5.7 h0.6
  text "<----------------------------   >45mm wide   ----------------------------->" at -27.05,-7.95 h0.6
Mechanical 15:
  lines w0.2: -10.7,-1.9 -10.7,13.6 1.1,13.6 1.1,-1.9 -10.7,-1.9
  text ".Designator" at -4.25,2 h2
Multi-Layer:
  pour cut-out: -8.6,13.2 -8.6,8.45 -1,8.45 -1,13.2
3D body "CAM (STEP-AP214).STEP": height 1.97, standoff -0.04, extent -9.6,-0.8 0,13.2